# EAGLE library part HEADER-11P (library Elecrow_Connector)
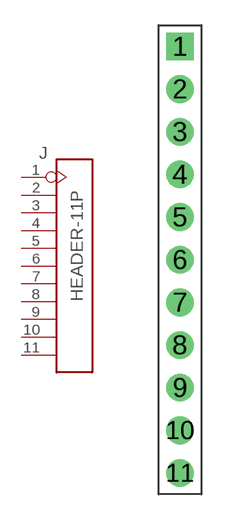
[diagram p15: symbol with the pads of 11P-2.54; footprint 11P-2.54]

Designator prefix J

## HEADER-11P-2.54  [11P-2.54]
1  1
2  2
3  3
4  4
5  5
6  6
7  7
8  8
9  9
10  10
11  11

## Footprint 11P-2.54 (pad centres in mm)
drill 0.889 pad 1.651 square: 1 0,12.7
drill 0.889 pad 1.651: 2 0,10.16; 3 0,7.62; 4 0,5.08; 5 0,2.54; 6 0,0; 7 0,-2.54; 8 0,-5.08; 9 0,-7.62; 10 0,-10.16; 11 0,-12.7